# EAGLE library part RJ45-TRAFO (library con-amphenol-rj45-ld)
RJ45 socket with integrated magnetics Naming: Amphenol LMJ1598824110DT39 TME RJ45-TRAFO Author: Petr Kalandra <mailto:kalandrap@gmail.com> Datasheet: http://zefiryn.tme.pl/dok/zlacza/rjtrafo.pdf
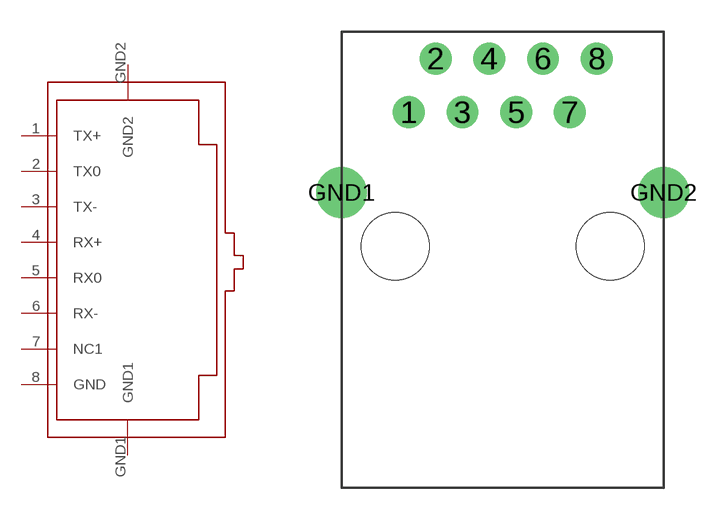
[diagram p0: symbol with the pads of RJ45-TRAFO; footprint RJ45-TRAFO]

Designator prefix -

## RJ45-TRAFO  [RJ45-TRAFO]
1  TX+
2  TX0
3  TX-
4  RX+
5  RX0
6  RX-
7  NC1  nc
8  GND  sup
GND1  GND1  sup
GND2  GND2  sup

## Footprint RJ45-TRAFO (pad centres in mm)
RJ45 without LED pins
drill 1: 1 -4.445,6.35; 2 -3.175,8.89; 3 -1.905,6.35; 4 -0.635,8.89; 5 0.635,6.35; 6 1.905,8.89; 7 3.175,6.35; 8 4.445,8.89
drill 1.6: GND1 -7.62,2.54; GND2 7.62,2.54
hole 3.2 at -5.08,0
hole 3.2 at 5.08,0